# Altium integrated library AhalTech BMS.IntLib: 45 symbols (part 1 of 4)
Pins are listed as number, name and electrical type; pins without a type are passive.

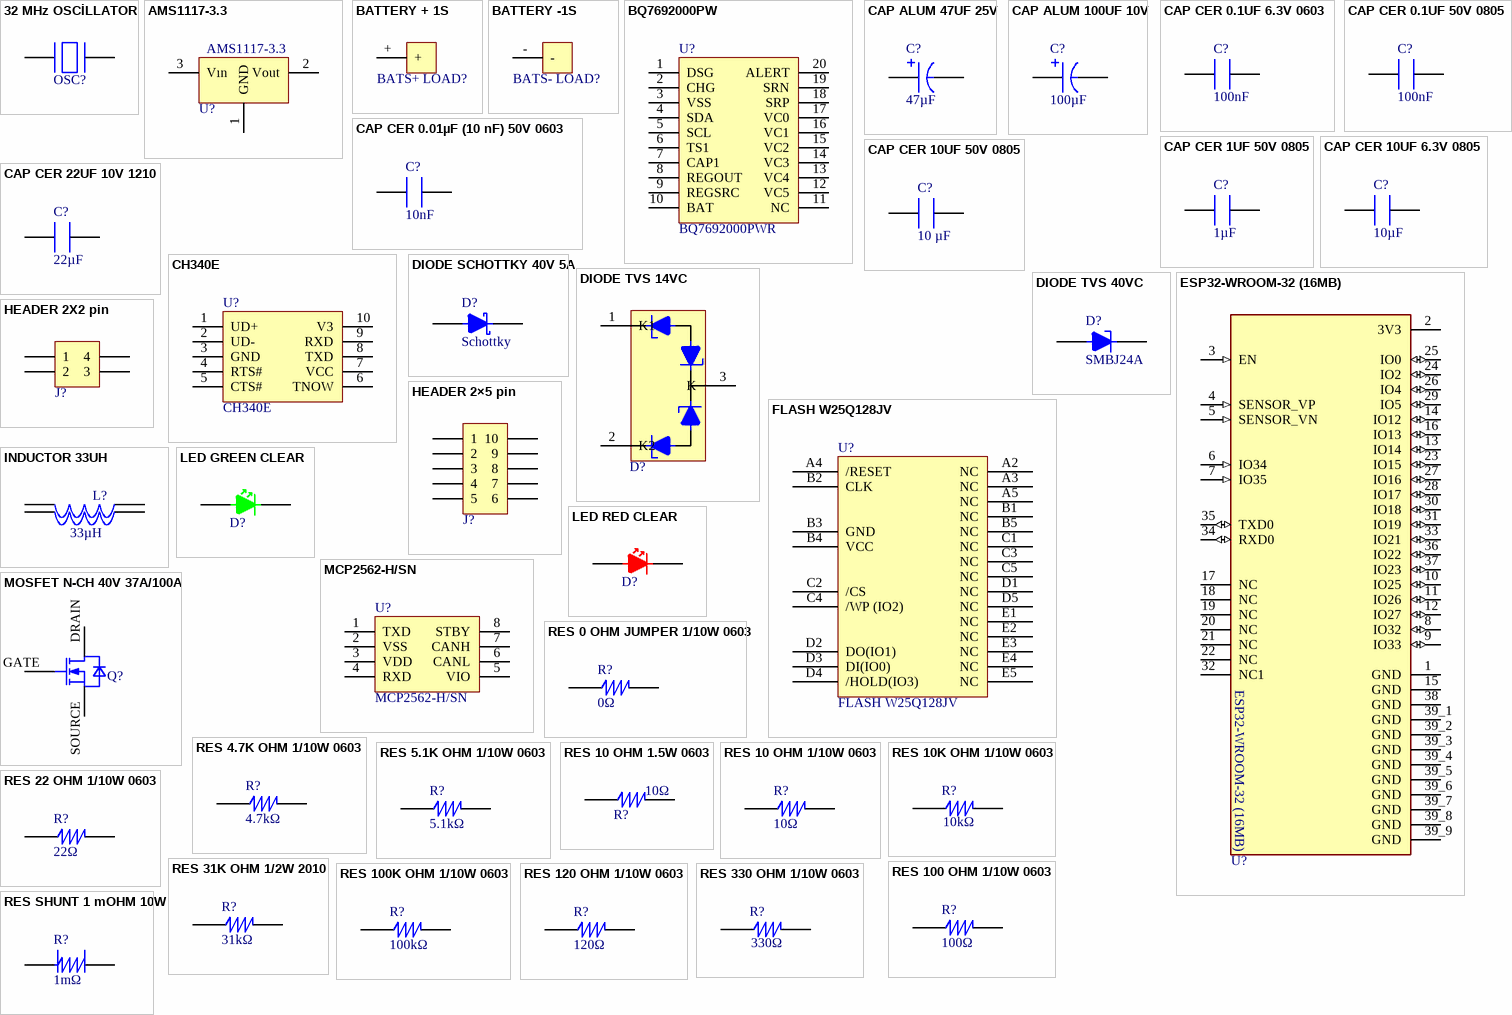
[diagram p0: symbols 32 MHz OSCİLLATOR to RES SHUNT 1 mOHM 10W]

## 32 MHz OSCİLLATOR
designator OSC?, comment END4263D-32M  (value not drawn)
32 MHz TCXO Clipped Sine Wave Oscillator 1.65V ~ 3.65V 4-SMD, No Lead; Base Resonator: Crystal; Frequency: 32 MHz; Frequency Stability: ±2.5ppm; Current - Supply (Max): 2mA; Type: TCXO; Output: Clipped Sine Wave; Voltage - Supply: 1.65V ~ 3.65V; Operating Temperature: -30°C ~ 85°C; Mounting Type: Surface Mount; Package / Case: 4-SMD, No Lead; Size / Dimension: 0.079" L x 0.063" W (2.00mm x 1.60mm)
footprint OSC_4-SMD, No Lead
pins: 1, 2

## AMS1117-3.3
designator U?
IC REG LINEAR 3.3V 1A SOT-223-3L; Manufacturer: ams; Max Junction Temperature (Tj): 125°C; Number of Circuits: 1; Voltage Tolerance: 3%; Supplier: Bison Technologies; RoHS: Compliant; Category: LDO Voltage Regulators; Stock: 375; Pricing: 100=0,1, 1000=0,1, 10000=0,1 (USD); Height - Seated (Max): 1.8mm; Length: 6.505mm; Number of Terminals: 3; REACH SVHC: Yes; Terminal Pitch: 2.29mm; Width: 3.505mm; ComponentLink1URL: https://datasheet.octopart.com:443/AMS1117-3.3-ams-datasheet-31830847.pdf?src-supplier=IHS; ComponentLink1Description: https://datasheet.octopart.com:443/AMS1117-3.3-ams-datasheet-31830847.pdf?src-supplier=IHS; Manufacturer Part Number: AMS1117-3.3
footprint SOT-223-3L
pins: 1 GND, 2 Vout, 3 Vın

## BATTERY + 1S
designator BATS+ LOAD?  (value not drawn)
battery + pad
footprint BATTERY +1S
pins: +

## BATTERY -1S
designator BATS- LOAD?  (value not drawn)
battery - pad
footprint BATTERY -1S
pins: -

## BQ7692000PW
designator U?  Supplier Part Number: BQ7692000PWR  (hidden comment: BQ7692000PW)
3 to 5-Series Cell Li-Ion and Li-Phosphate Battery Monitor (bq76940 Family) 20-TSSOP -40 to 85; Manufacturer: Texas Instruments; Manufacturer Lifecycle Status: ACTIVE; Fault Protection: Over Current, Over/Under Voltage, Short Circuit; Interface: I2C; Max Supply Voltage: 25V; Min Supply Voltage: 6V; Number of Cells: 5; Output Voltage: 3.6V; Supplier: Mouser; Manufacturer Part Number: BQ7692000PWR; RoHS: Compliant; Category: Battery Management; Stock: 2559; Pricing: 1=3,56, 10=2,68, 50=2,46, 100=2,21, 1000=1,97, 10000=1,87 (USD); Case/Package: TSSOP; Contact Plating: Gold; Height: 0m; Lead Free: Lead Free; Length: 6.5mm; Lifecycle Status: Production; Max Operating Temperature: 85°C; Min Operating Temperature: -40°C; Mounting Technology: Surface Mount; Pins: 20; Packaging: Tape & Reel (TR); Thickness: 1mm; Weight: 78.187985mg; Width: 4.4mm; ComponentLink1URL: https://sigma.octopart.com:443/157851284/technical_drawing/Texas-Instruments-BQ7692000PWR.pdf?src-supplier=Texas+Instruments; ComponentLink1Description: https://sigma.octopart.com:443/157851284/technical_drawing/Texas-Instruments-BQ7692000PWR.pdf?src-supplier=Texas+Instruments; ComponentLink2URL: https://octopart.com:443/opatz8j6/c1?t=SUv5cTV3hbxgLzMURFhOl31P7KwdP4IIa1VXY-0LQTF56ovuquQhRah-IZMqMMYwmg_DfMuMoPnfRi3b6zabcyTbO33mx1nQz2bkJkMKHm8q09abDQSYb_WkrLjav2RMt-V5NjDpR6hn6fR69isqLRegOjoVb3BuvhuEuIC9qftM-JVDlkyISEQycX9rjI5xR09KPbL3ewCdJCialcWofIxbjuTWOTvIVVdEzCEQW0iyRmTiOXLILS7qWjAwphNZ1e-U7mh07FngErzhP7Mb2cWrE7io9jCloFUrM_r23Ys53kEe01IhFn4WIjfFAp6eArI68kZDZimviBPFZOzgamDubAsPha5UrIwXwr63rUMxCzXOMdaU3E7royDoSUAaeIRbPQ&src-supplier=Texas+Instruments; ComponentLink2Description: https://octopart.com:443/opatz8j6/c1?t=SUv5cTV3hbxgLzMURFhOl31P7KwdP4IIa1VXY-0LQTF56ovuquQhRah-IZMqMMYwmg_DfMuMoPnfRi3b6zabcyTbO33mx1nQz2bkJkMKHm8q09abDQSYb_WkrLjav2RMt-V5NjDpR6hn6fR69isqLRegOjoVb3BuvhuEuIC9qftM-JVDlkyISEQycX9rjI5xR09KPbL3ewCdJCialcWofIxbjuTWOTvIVVdEzCEQW0iyRmTiOXLILS7qWjAwphNZ1e-U7mh07FngErzhP7Mb2cWrE7io9jCloFUrM_r23Ys53kEe01IhFn4WIjfFAp6eArI68kZDZimviBPFZOzgamDubAsPha5UrIwXwr63rUMxCzXOMdaU3E7royDoSUAaeIRbPQ&src-supplier=Texas+Instruments; ComponentLink3URL: https://datasheet.octopart.com:443/BQ7692000PWR-Texas-Instruments-datasheet-34142074.pdf?src-supplier=Texas+Instruments; ComponentLink3Description: https://datasheet.octopart.com:443/BQ7692000PWR-Texas-Instruments-datasheet-34142074.pdf?src-supplier=Texas+Instruments; ComponentLink4URL: https://datasheet.octopart.com:443/BQ7692000PWR-Texas-Instruments-datasheet-32015107.pdf?src-supplier=Texas+Instruments; ComponentLink4Description: https://datasheet.octopart.com:443/BQ7692000PWR-Texas-Instruments-datasheet-32015107.pdf?src-supplier=Texas+Instruments; ComponentLink5URL: https://datasheet.octopart.com:443/BQ7692000PWR-Texas-Instruments-datasheet-24998011.pdf?src-supplier=Texas+Instruments; ComponentLink5Description: https://datasheet.octopart.com:443/BQ7692000PWR-Texas-Instruments-datasheet-24998011.pdf?src-supplier=Texas+Instruments; ComponentLink6URL: https://sigma.octopart.com:443/49249835/technical_drawing/Texas-Instruments-BQ7692000PWR.pdf?src-supplier=Texas+Instruments; ComponentLink6Description: https://sigma.octopart.com:443/49249835/technical_drawing/Texas-Instruments-BQ7692000PWR.pdf?src-supplier=Texas+Instruments; ComponentLink7URL: https://datasheet.octopart.com:443/BQ7692000PWR-Texas-Instruments-datasheet-149901685.pdf?src-supplier=Upverter; ComponentLink7Description: https://datasheet.octopart.com:443/BQ7692000PWR-Texas-Instruments-datasheet-149901685.pdf?src-supplier=Upverter; ComponentLink8URL: https://datasheet.octopart.com:443/BQ7692000PWR-Texas-Instruments-datasheet-162168029.pdf?src-supplier=LCSC; ComponentLink8Description: https://datasheet.octopart.com:443/BQ7692000PWR-Texas-Instruments-datasheet-162168029.pdf?src-supplier=LCSC; ComponentLink9URL: https://datasheet.octopart.com:443/BQ7692000PWR-Texas-Instruments-datasheet-164413110.pdf?src-supplier=SHENGYU+ELECTRONICS; ComponentLink9Description: https://datasheet.octopart.com:443/BQ7692000PWR-Texas-Instruments-datasheet-164413110.pdf?src-supplier=SHENGYU+ELECTRONICS; ComponentLink10URL: http://sigma.octopart.com:80/conflict_mineral_statement/Texas-Instruments-company-63.pdf?src-supplier=Compliance+Statements; ComponentLink10Description: http://sigma.octopart.com:80/conflict_mineral_statement/Texas-Instruments-company-63.pdf?src-supplier=Compliance+Statements; ComponentLink11URL: http://sigma.octopart.com:80/reach_statement/Texas-Instruments-company-64.pdf?src-supplier=Compliance+Statements; ComponentLink11Description: http://sigma.octopart.com:80/reach_statement/Texas-Instruments-company-64.pdf?src-supplier=Compliance+Statements
footprint 20-TSSOP
pins: 1 DSG, 2 CHG, 3 VSS, 4 SDA, 5 SCL, 6 TS1, 7 CAP1, 8 REGOUT, 9 REGSRC, 10 BAT, 11 NC, 12 VC5, 13 VC4, 14 VC3, 15 VC2, 16 VC1, 17 VC0, 18 SRP, 19 SRN, 20 ALERT

## CAP ALUM 47UF 25V
designator C?, comment value 47µF  (hidden comment: EEE-FK1E470P)
Radial Can - SMD ALUMINUM ELECTROLYTIC CAPACITOR FK 25V 47muF ±20% 0.248Dia 6.30mm; Manufacturer: Panasonic; Manufacturer Part Number: EEEFK1E470P; Dielectric Material: Aluminium; Dissipation Factor: 14%; ESR (Equivalent Series Resistance): 360mΩ; Leakage Current: 11.75µA; Life (Hours): 2000hours; Polarity: Polar; Ripple Current: 180mA; Ripple Current (AC): 240mA; Supplier: Arrow Electronics; Supplier Part Number: EEE-FK1E470P; RoHS: Compliant; Category: Aluminum Electrolytic Capacitors; Stock: 18000; Pricing: 1000=0,0922, 2000=0,091, 3000=0,09, 4000=0,086, 5000=0,085, 10000=0,08 (USD); Case/Package: Radial; Contact Plating: Tin; Diameter: 6.3mm; Height: 5.8mm; Height - Seated (Max): 6.096mm; Impedance: 360mΩ; Lead Free: Lead Free; Length: 6.6mm; Lifecycle Status: Production; Max Operating Temperature: 105°C; Min Operating Temperature: -55°C; Mounting Technology: Surface Mount; Pins: 2; Number of Terminals: 2; Packaging: Cut Tape; Radiation Hardening: No; REACH SVHC: Yes; Schedule B: 8532220020, 8532220020|8532220020|8532220020|8532220020|8532220020|8532220020|8532220020|8532220020|8532220020|8532220020|8532220020|8532220020|8532220020|8532220020|8532220020|8532220020|8532220020|8532220020|8532220020|8532220020|8532220020|8532220020|8532220020|85; Termination: SMD/SMT; Tolerance: 20%; Voltage: 25V; Voltage Rating: 25V; Voltage Rating (AC): 25V; Voltage Rating (DC): 25V; Width: 6.6mm; ComponentLink1URL: https://datasheet.octopart.com:443/EEEFK1E470P-Panasonic-datasheet-169278531.pdf?src-supplier=IHS; ComponentLink1Description: https://datasheet.octopart.com:443/EEEFK1E470P-Panasonic-datasheet-169278531.pdf?src-supplier=IHS; ComponentLink2URL: https://datasheet.octopart.com:443/EEEFK1E470P-Panasonic-datasheet-62287436.pdf?src-supplier=Newark; ComponentLink2Description: https://datasheet.octopart.com:443/EEEFK1E470P-Panasonic-datasheet-62287436.pdf?src-supplier=Newark; ComponentLink3URL: https://datasheet.octopart.com:443/EEEFK1E470P-Panasonic-datasheet-8161.pdf?src-supplier=Newark; ComponentLink3Description: https://datasheet.octopart.com:443/EEEFK1E470P-Panasonic-datasheet-8161.pdf?src-supplier=Newark; ComponentLink4URL: https://datasheet.octopart.com:443/EEEFK1E470P-Panasonic-datasheet-61627622.pdf?src-supplier=Newark; ComponentLink4Description: https://datasheet.octopart.com:443/EEEFK1E470P-Panasonic-datasheet-61627622.pdf?src-supplier=Newark; ComponentLink5URL: https://datasheet.octopart.com:443/EEEFK1E470P-Panasonic-datasheet-8852369.pdf?src-supplier=Newark; ComponentLink5Description: https://datasheet.octopart.com:443/EEEFK1E470P-Panasonic-datasheet-8852369.pdf?src-supplier=Newark; ComponentLink6URL: https://datasheet.octopart.com:443/EEEFK1E470P-Panasonic-datasheet-8712906.pdf?src-supplier=Newark; ComponentLink6Description: https://datasheet.octopart.com:443/EEEFK1E470P-Panasonic-datasheet-8712906.pdf?src-supplier=Newark; ComponentLink7URL: https://datasheet.octopart.com:443/EEEFK1E470P-Panasonic-datasheet-13278598.pdf?src-supplier=Newark; ComponentLink7Description: https://datasheet.octopart.com:443/EEEFK1E470P-Panasonic-datasheet-13278598.pdf?src-supplier=Newark; ComponentLink8URL: https://datasheet.octopart.com:443/EEE-FK1E470P-Panasonic-datasheet-22087609.pdf?src-supplier=Newark; ComponentLink8Description: https://datasheet.octopart.com:443/EEE-FK1E470P-Panasonic-datasheet-22087609.pdf?src-supplier=Newark; ComponentLink9URL: https://datasheet.octopart.com:443/EEEFK1E470P-Panasonic-datasheet-13266987.pdf?src-supplier=RS+(Formerly+Allied+Electronics); ComponentLink9Description: https://datasheet.octopart.com:443/EEEFK1E470P-Panasonic-datasheet-13266987.pdf?src-supplier=RS+(Formerly+Allied+Electronics); ComponentLink10URL: https://datasheet.octopart.com:443/EEEFK1E470P-Panasonic-datasheet-8854493.pdf?src-supplier=Future+Electronics; ComponentLink10Description: https://datasheet.octopart.com:443/EEEFK1E470P-Panasonic-datasheet-8854493.pdf?src-supplier=Future+Electronics; ComponentLink11URL: https://datasheet.octopart.com:443/EEEFK1E470P-Panasonic-datasheet-8711795.pdf?src-supplier=Future+Electronics; ComponentLink11Description: https://datasheet.octopart.com:443/EEEFK1E470P-Panasonic-datasheet-8711795.pdf?src-supplier=Future+Electronics; ComponentLink12URL: https://datasheet.octopart.com:443/EEEFK1E470P-Panasonic-datasheet-5313801.pdf?src-supplier=Future+Electronics; ComponentLink12Description: https://datasheet.octopart.com:443/EEEFK1E470P-Panasonic-datasheet-5313801.pdf?src-supplier=Future+Electronics; ComponentLink13URL: https://datasheet.octopart.com:443/EEE-FK1E470P-Panasonic-datasheet-150469824.pdf?src-supplier=JRH+Electronics; ComponentLink13Description: https://datasheet.octopart.com:443/EEE-FK1E470P-Panasonic-datasheet-150469824.pdf?src-supplier=JRH+Electronics; ComponentLink14URL: https://datasheet.octopart.com:443/EEE-FK1E470P-Panasonic-datasheet-11546739.pdf?src-supplier=Electro+Sonic; ComponentLink14Description: https://datasheet.octopart.com:443/EEE-FK1E470P-Panasonic-datasheet-11546739.pdf?src-supplier=Electro+Sonic; ComponentLink15URL: https://datasheet.octopart.com:443/EEEFK1E470P-Panasonic-datasheet-7555708.pdf?src-supplier=Jameco; ComponentLink15Description: https://datasheet.octopart.com:443/EEEFK1E470P-Panasonic-datasheet-7555708.pdf?src-supplier=Jameco; ComponentLink16URL: https://sigma.octopart.com:443/150570760/technical_drawing/Panasonic-EEEFK1E470P.pdf?src-supplier=Panasonic+SCT; ComponentLink16Description: https://sigma.octopart.com:443/150570760/technical_drawing/Panasonic-EEEFK1E470P.pdf?src-supplier=Panasonic+SCT; ComponentLink17URL: https://datasheet.octopart.com:443/EEEFK1E470P-Panasonic-datasheet-136531309.pdf?src-supplier=TME; ComponentLink17Description: https://datasheet.octopart.com:443/EEEFK1E470P-Panasonic-datasheet-136531309.pdf?src-supplier=TME; ComponentLink18URL: https://datasheet.octopart.com:443/EEEFK1E470P-Panasonic-datasheet-136348055.pdf?src-supplier=TME; ComponentLink18Description: https://datasheet.octopart.com:443/EEEFK1E470P-Panasonic-datasheet-136348055.pdf?src-supplier=TME; ComponentLink19URL: https://datasheet.octopart.com:443/EEEFK1E470P-Panasonic-datasheet-5318435.pdf?src-supplier=Farnell; ComponentLink19Description: https://datasheet.octopart.com:443/EEEFK1E470P-Panasonic-datasheet-5318435.pdf?src-supplier=Farnell; ComponentLink20URL: https://datasheet.octopart.com:443/EEEFK1E470P-Panasonic-datasheet-5316599.pdf?src-supplier=Farnell; ComponentLink20Description: https://datasheet.octopart.com:443/EEEFK1E470P-Panasonic-datasheet-5316599.pdf?src-supplier=Farnell; ComponentLink21URL: https://datasheet.octopart.com:443/EEEFK1E470P-Panasonic-datasheet-5390910.pdf?src-supplier=Farnell; ComponentLink21Description: https://datasheet.octopart.com:443/EEEFK1E470P-Panasonic-datasheet-5390910.pdf?src-supplier=Farnell; ComponentLink22URL: https://datasheet.octopart.com:443/EEEFK1E470P-Panasonic-datasheet-7550061.pdf?src-supplier=Farnell; ComponentLink22Description: https://datasheet.octopart.com:443/EEEFK1E470P-Panasonic-datasheet-7550061.pdf?src-supplier=Farnell; ComponentLink23URL: https://datasheet.octopart.com:443/EEEFK1E470P-Panasonic-datasheet-1770.pdf?src-supplier=Farnell; ComponentLink23Description: https://datasheet.octopart.com:443/EEEFK1E470P-Panasonic-datasheet-1770.pdf?src-supplier=Farnell; ComponentLink24URL: https://datasheet.octopart.com:443/EEEFK1E470P-Panasonic-datasheet-1290.pdf?src-supplier=Farnell; ComponentLink24Description: https://datasheet.octopart.com:443/EEEFK1E470P-Panasonic-datasheet-1290.pdf?src-supplier=Farnell; ComponentLink25URL: https://datasheet.octopart.com:443/EEEFK1E470P-Panasonic-datasheet-2601.pdf?src-supplier=Farnell; ComponentLink25Description: https://datasheet.octopart.com:443/EEEFK1E470P-Panasonic-datasheet-2601.pdf?src-supplier=Farnell; ComponentLink26URL: https://datasheet.octopart.com:443/EEEFK1E470P-Panasonic-datasheet-122249.pdf?src-supplier=Farnell; ComponentLink26Description: https://datasheet.octopart.com:443/EEEFK1E470P-Panasonic-datasheet-122249.pdf?src-supplier=Farnell; ComponentLink27URL: https://datasheet.octopart.com:443/EEEFK1E470P-Panasonic-datasheet-4056.pdf?src-supplier=Farnell; ComponentLink27Description: https://datasheet.octopart.com:443/EEEFK1E470P-Panasonic-datasheet-4056.pdf?src-supplier=Farnell
footprint CAP_EEE-FK1E470P
pins: 1, 2

## CAP ALUM 100UF 10V
designator C?, comment value 100µF  (hidden comment: EEE-1AA101WR)
CAP ALUM 100UF 20% 10V SMD; Manufacturer: Panasonic; Dissipation Factor: 30%; Leakage Current: 10µA; Life (Hours): 1000hours; Ripple Current: 50mA; Supplier: Arrow Electronics; Supplier Part Number: EEE-1AA101WR; Manufacturer Part Number: EEE-1AA101WR; RoHS: Compliant; Category: Aluminum Electrolytic Capacitors; Stock: 26000; Pricing: 1000=0,0647 (USD); Case/Package: Radial; Contact Plating: Tin; Diameter: 5mm; Height: 5.4mm; Height - Seated (Max): 5.4102mm; Lead Free: Lead Free; Length: 5.3mm; Lifecycle Status: NRND; Max Operating Temperature: 85°C; Min Operating Temperature: -40°C; Mounting Technology: Surface Mount; Number of Terminals: 2; Packaging: Cut Tape; Radiation Hardening: No; REACH SVHC: Yes; Ripple Current (AC): 50mA; Schedule B: 8532220020, 8532220020|8532220020|8532220020|8532220020|8532220020; Termination: SMD/SMT; Tolerance: 20%; Voltage Rating: 10V; Voltage Rating (DC): 10V; Width: 5.3mm; ComponentLink1URL: https://datasheet.octopart.com:443/EEE-1AA101WR-Panasonic-datasheet-62330071.pdf?src-supplier=Newark; ComponentLink1Description: https://datasheet.octopart.com:443/EEE-1AA101WR-Panasonic-datasheet-62330071.pdf?src-supplier=Newark; ComponentLink2URL: https://datasheet.octopart.com:443/EEE-1AA101WR-Panasonic-datasheet-5314063.pdf?src-supplier=Newark; ComponentLink2Description: https://datasheet.octopart.com:443/EEE-1AA101WR-Panasonic-datasheet-5314063.pdf?src-supplier=Newark; ComponentLink3URL: https://datasheet.octopart.com:443/EEE-1AA101WR-Panasonic-datasheet-41169183.pdf?src-supplier=Newark; ComponentLink3Description: https://datasheet.octopart.com:443/EEE-1AA101WR-Panasonic-datasheet-41169183.pdf?src-supplier=Newark; ComponentLink4URL: https://datasheet.octopart.com:443/EEE-1AA101WR-Panasonic-datasheet-13265900.pdf?src-supplier=RS+(Formerly+Allied+Electronics); ComponentLink4Description: https://datasheet.octopart.com:443/EEE-1AA101WR-Panasonic-datasheet-13265900.pdf?src-supplier=RS+(Formerly+Allied+Electronics); ComponentLink5URL: https://datasheet.octopart.com:443/EEE-1AA101WR-Panasonic-datasheet-34230028.pdf?src-supplier=element14+APAC; ComponentLink5Description: https://datasheet.octopart.com:443/EEE-1AA101WR-Panasonic-datasheet-34230028.pdf?src-supplier=element14+APAC; ComponentLink6URL: https://datasheet.octopart.com:443/EEE-1AA101WR-Panasonic-datasheet-154766114.pdf?src-supplier=Master+Electronics; ComponentLink6Description: https://datasheet.octopart.com:443/EEE-1AA101WR-Panasonic-datasheet-154766114.pdf?src-supplier=Master+Electronics; ComponentLink7URL: https://datasheet.octopart.com:443/EEE-1AA101WR-Panasonic-datasheet-11548988.pdf?src-supplier=Arrow+Electronics; ComponentLink7Description: https://datasheet.octopart.com:443/EEE-1AA101WR-Panasonic-datasheet-11548988.pdf?src-supplier=Arrow+Electronics; ComponentLink8URL: https://datasheet.octopart.com:443/EEE1AA101WR-Panasonic-datasheet-150469818.pdf?src-supplier=TME; ComponentLink8Description: https://datasheet.octopart.com:443/EEE1AA101WR-Panasonic-datasheet-150469818.pdf?src-supplier=TME; ComponentLink9URL: https://sigma.octopart.com:443/150570760/technical_drawing/Panasonic-EEE1AA101WR.pdf?src-supplier=Panasonic+SCT; ComponentLink9Description: https://sigma.octopart.com:443/150570760/technical_drawing/Panasonic-EEE1AA101WR.pdf?src-supplier=Panasonic+SCT; ComponentLink10URL: https://datasheet.octopart.com:443/EEE-1AA101WR-Panasonic-datasheet-6019.pdf?src-supplier=DigiKey; ComponentLink10Description: https://datasheet.octopart.com:443/EEE-1AA101WR-Panasonic-datasheet-6019.pdf?src-supplier=DigiKey
footprint CAP_EEE-1AA101WR
pins: 1, 2

## CAP CER 0.1UF 6.3V 0603
designator C?, comment value 100nF  (hidden comment: KGM15AR70J104JT)
0.1 µF ±5% 6.3V Ceramic Capacitor X7R 0603 (1608 Metric); Manufacturer: KYOCERA AVX; Supplier: Arrow Electronics; Supplier Part Number: KGM15AR70J104JT; Manufacturer Part Number: KGM15AR70J104JT; RoHS: Compliant; Category: Ceramic Capacitors; Stock: 2087; Pricing: 1=0,019, 10=0,019, 25=0,019, 100=0,018, 250=0,018, 500=0,018, 1000=0,018 (USD); Dielectric Material: Ceramic; Height: 900µm; Length: 1.6mm; Lifecycle Status: Production; Max Operating Temperature: 125°C; Min Operating Temperature: -55°C; Mounting Technology: Surface Mount; Number of Terminals: 2; REACH SVHC: Yes; Voltage Rating (DC): 6.3V; Width: 810µm; ComponentLink1URL: https://datasheet.octopart.com:443/KGM15AR70J104JT-KYOCERA-AVX-datasheet-179280988.pdf?src-supplier=IHS; ComponentLink1Description: https://datasheet.octopart.com:443/KGM15AR70J104JT-KYOCERA-AVX-datasheet-179280988.pdf?src-supplier=IHS
footprint CAP CER 0603
pins: 1, 2

## CAP CER 0.1UF 50V 0805
designator C?, comment value 100nF  (hidden comment: KGM21NR71H104KT)
0.1 µF ±10% 50V Ceramic Capacitor X7R 0805 (2012 Metric); Manufacturer: KYOCERA AVX; Supplier: Arrow Electronics; Supplier Part Number: KGM21NR71H104KT; Manufacturer Part Number: KGM21NR71H104KT; RoHS: Compliant; Category: Ceramic Capacitors; Stock: 28652000; Pricing: 4000=0,0068, 20000=0,007, 100000=0,006 (USD); Dielectric Material: Ceramic; Height: 1mm; Length: 2.01mm; Lifecycle Status: Production; Max Operating Temperature: 125°C; Min Operating Temperature: -55°C; Mounting Technology: Surface Mount; Number of Terminals: 2; REACH SVHC: Yes; Voltage Rating (DC): 50V; Width: 1.25mm; ComponentLink1URL: https://datasheet.octopart.com:443/KGM21NR71H104KT-KYOCERA-AVX-datasheet-179280988.pdf?src-supplier=IHS; ComponentLink1Description: https://datasheet.octopart.com:443/KGM21NR71H104KT-KYOCERA-AVX-datasheet-179280988.pdf?src-supplier=IHS; ComponentLink2URL: https://datasheet.octopart.com:443/KGM21NR71H104KT-KYOCERA-AVX-datasheet-178027269.pdf?src-supplier=TME; ComponentLink2Description: https://datasheet.octopart.com:443/KGM21NR71H104KT-KYOCERA-AVX-datasheet-178027269.pdf?src-supplier=TME; ComponentLink3URL: https://datasheet.octopart.com:443/KGM21NR71H104KT-KYOCERA-AVX-datasheet-175509538.pdf?src-supplier=Future+Electronics; ComponentLink3Description: https://datasheet.octopart.com:443/KGM21NR71H104KT-KYOCERA-AVX-datasheet-175509538.pdf?src-supplier=Future+Electronics; ComponentLink4URL: http://sigma.octopart.com:80/conflict_mineral_statement/AVX-company-34.pdf?src-supplier=Compliance+Statements; ComponentLink4Description: http://sigma.octopart.com:80/conflict_mineral_statement/AVX-company-34.pdf?src-supplier=Compliance+Statements; ComponentLink5URL: http://sigma.octopart.com:80/reach_statement/AVX-company-19.pdf?src-supplier=Compliance+Statements; ComponentLink5Description: http://sigma.octopart.com:80/reach_statement/AVX-company-19.pdf?src-supplier=Compliance+Statements
footprint CAP CER 0805
pins: 1, 2

## CAP CER 0.01µF (10 nF) 50V 0603
designator C?, comment value 10nF  (hidden comment: C0603C103J5RACTU)
CAP CER 10000PF 50V X7R 0603; Manufacturer: KEMET; Dielectric Material: Ceramic; Dissipation Factor: 2.5%; Temperature Coefficient: 30ppm/°C; Tolerance: 5%; Supplier: Arrow Electronics; Supplier Part Number: C0603C103J5RACTU; Manufacturer Part Number: C0603C103J5RACTU; RoHS: Compliant; Category: Ceramic Capacitors; Stock: 896000; Pricing: 20000=0,0043 (USD); Case/Package: 0603; Case Code (Imperial): 0603; China RoHS: Compliant; Contact Plating: Tin; Depth: 800µm; Dielectric: X7R; Height: 800µm; Lead Free: Lead Free; Lead Pitch: 700µm; Length: 1.6mm; Lifecycle Status: Production; Material: Ceramic; Max Operating Temperature: 125°C; Min Operating Temperature: -55°C; Mounting Technology: Surface Mount; Pins: 2; Number of Terminals: 2; Packaging: Cut Tape; Radiation Hardening: No; REACH SVHC: Yes; Schedule B: 8532240020, 8532240020|8532240020, 8532240020|8532240020|8532240020, 8532240020|8532240020|8532240020|8532240020; Termination: SMD/SMT; Thickness: 863.6µm; Voltage: 50V; Voltage Rating: 50V; Voltage Rating (DC): 50V; Width: 800µm; ComponentLink1URL: https://datasheet.octopart.com:443/C0603C103J5RAC7867-KEMET-datasheet-179096189.pdf?src-supplier=IHS; ComponentLink1Description: https://datasheet.octopart.com:443/C0603C103J5RAC7867-KEMET-datasheet-179096189.pdf?src-supplier=IHS; ComponentLink2URL: https://datasheet.octopart.com:443/C0603C103J5RACTU-KEMET-datasheet-178445679.pdf?src-supplier=IHS; ComponentLink2Description: https://datasheet.octopart.com:443/C0603C103J5RACTU-KEMET-datasheet-178445679.pdf?src-supplier=IHS; ComponentLink3URL: https://datasheet.octopart.com:443/C0603C103J5RACTU-KEMET-datasheet-137357759.pdf?src-supplier=Upverter; ComponentLink3Description: https://datasheet.octopart.com:443/C0603C103J5RACTU-KEMET-datasheet-137357759.pdf?src-supplier=Upverter; ComponentLink4URL: https://datasheet.octopart.com:443/C0603C103J5RACTU-KEMET-datasheet-137357764.pdf?src-supplier=Upverter; ComponentLink4Description: https://datasheet.octopart.com:443/C0603C103J5RACTU-KEMET-datasheet-137357764.pdf?src-supplier=Upverter; ComponentLink5URL: https://datasheet.octopart.com:443/C0603C103J5RAC-TU-Kemet-datasheet-5313890.pdf?src-supplier=Newark; ComponentLink5Description: https://datasheet.octopart.com:443/C0603C103J5RAC-TU-Kemet-datasheet-5313890.pdf?src-supplier=Newark; ComponentLink6URL: https://datasheet.octopart.com:443/C0603C103J5RAC-TU-Kemet-datasheet-5390537.pdf?src-supplier=Newark; ComponentLink6Description: https://datasheet.octopart.com:443/C0603C103J5RAC-TU-Kemet-datasheet-5390537.pdf?src-supplier=Newark; ComponentLink7URL: https://datasheet.octopart.com:443/C0603C103J5RAC-TU-Kemet-datasheet-7541751.pdf?src-supplier=Newark; ComponentLink7Description: https://datasheet.octopart.com:443/C0603C103J5RAC-TU-Kemet-datasheet-7541751.pdf?src-supplier=Newark; ComponentLink8URL: https://datasheet.octopart.com:443/C0603C103J5RACTU-KEMET-datasheet-176289383.pdf?src-supplier=Newark; ComponentLink8Description: https://datasheet.octopart.com:443/C0603C103J5RACTU-KEMET-datasheet-176289383.pdf?src-supplier=Newark; ComponentLink9URL: https://datasheet.octopart.com:443/C0603C103J5RACTU-KEMET-datasheet-130256537.pdf?src-supplier=Newark; ComponentLink9Description: https://datasheet.octopart.com:443/C0603C103J5RACTU-KEMET-datasheet-130256537.pdf?src-supplier=Newark; ComponentLink10URL: https://datasheet.octopart.com:443/C0603C103J5RACTU-Kemet-datasheet-8764837.pdf?src-supplier=Newark; ComponentLink10Description: https://datasheet.octopart.com:443/C0603C103J5RACTU-Kemet-datasheet-8764837.pdf?src-supplier=Newark; ComponentLink11URL: https://datasheet.octopart.com:443/C0603C103J5RACTU-Kemet-datasheet-8480123.pdf?src-supplier=Newark; ComponentLink11Description: https://datasheet.octopart.com:443/C0603C103J5RACTU-Kemet-datasheet-8480123.pdf?src-supplier=Newark; ComponentLink12URL: https://datasheet.octopart.com:443/C0603C103J5RACTU-Kemet-datasheet-5393970.pdf?src-supplier=Newark; ComponentLink12Description: https://datasheet.octopart.com:443/C0603C103J5RACTU-Kemet-datasheet-5393970.pdf?src-supplier=Newark; ComponentLink13URL: https://datasheet.octopart.com:443/C0603C103J5RACTU-Kemet-datasheet-8502025.pdf?src-supplier=Newark; ComponentLink13Description: https://datasheet.octopart.com:443/C0603C103J5RACTU-Kemet-datasheet-8502025.pdf?src-supplier=Newark; ComponentLink14URL: https://datasheet.octopart.com:443/C0603C103J5RACTU-Kemet-datasheet-161801.pdf?src-supplier=Newark; ComponentLink14Description: https://datasheet.octopart.com:443/C0603C103J5RACTU-Kemet-datasheet-161801.pdf?src-supplier=Newark; ComponentLink15URL: https://datasheet.octopart.com:443/C0603C103J5RACTU-KEMET-datasheet-149521810.pdf?src-supplier=Farnell; ComponentLink15Description: https://datasheet.octopart.com:443/C0603C103J5RACTU-KEMET-datasheet-149521810.pdf?src-supplier=Farnell; ComponentLink16URL: https://datasheet.octopart.com:443/C0603C103J5RACTU-Kemet-datasheet-12608295.pdf?src-supplier=Farnell; ComponentLink16Description: https://datasheet.octopart.com:443/C0603C103J5RACTU-Kemet-datasheet-12608295.pdf?src-supplier=Farnell; ComponentLink17URL: https://datasheet.octopart.com:443/C0603C103J5RACTU-Kemet-datasheet-11992184.pdf?src-supplier=Farnell; ComponentLink17Description: https://datasheet.octopart.com:443/C0603C103J5RACTU-Kemet-datasheet-11992184.pdf?src-supplier=Farnell; ComponentLink18URL: https://datasheet.octopart.com:443/C0603C103J5RACTU-Kemet-datasheet-10942409.pdf?src-supplier=Farnell; ComponentLink18Description: https://datasheet.octopart.com:443/C0603C103J5RACTU-Kemet-datasheet-10942409.pdf?src-supplier=Farnell; ComponentLink19URL: https://datasheet.octopart.com:443/C0603C103J5RACTU-Kemet-datasheet-10404442.pdf?src-supplier=Farnell; ComponentLink19Description: https://datasheet.octopart.com:443/C0603C103J5RACTU-Kemet-datasheet-10404442.pdf?src-supplier=Farnell; ComponentLink20URL: https://datasheet.octopart.com:443/C0603C103J5RACTU-KEMET-datasheet-101575638.pdf?src-supplier=Farnell; ComponentLink20Description: https://datasheet.octopart.com:443/C0603C103J5RACTU-KEMET-datasheet-101575638.pdf?src-supplier=Farnell; ComponentLink21URL: https://datasheet.octopart.com:443/C0603C103J5RAC-TU-Kemet-datasheet-7833651.pdf?src-supplier=Farnell; ComponentLink21Description: https://datasheet.octopart.com:443/C0603C103J5RAC-TU-Kemet-datasheet-7833651.pdf?src-supplier=Farnell; ComponentLink22URL: https://datasheet.octopart.com:443/C0603C103J5RAC-TU-Kemet-datasheet-7601896.pdf?src-supplier=Farnell; ComponentLink22Description: https://datasheet.octopart.com:443/C0603C103J5RAC-TU-Kemet-datasheet-7601896.pdf?src-supplier=Farnell; ComponentLink23URL: https://datasheet.octopart.com:443/C0603C103J5RAC-TU-Kemet-datasheet-5316294.pdf?src-supplier=Farnell; ComponentLink23Description: https://datasheet.octopart.com:443/C0603C103J5RAC-TU-Kemet-datasheet-5316294.pdf?src-supplier=Farnell; ComponentLink24URL: https://datasheet.octopart.com:443/C0603C103J5RAC-TU-Kemet-datasheet-5314837.pdf?src-supplier=Farnell; ComponentLink24Description: https://datasheet.octopart.com:443/C0603C103J5RAC-TU-Kemet-datasheet-5314837.pdf?src-supplier=Farnell; ComponentLink25URL: https://datasheet.octopart.com:443/C0603C103J5RAC-TU-Kemet-datasheet-8092359.pdf?src-supplier=Farnell; ComponentLink25Description: https://datasheet.octopart.com:443/C0603C103J5RAC-TU-Kemet-datasheet-8092359.pdf?src-supplier=Farnell; ComponentLink26URL: https://datasheet.octopart.com:443/C0603C103J5RAC-TU-Kemet-datasheet-5314449.pdf?src-supplier=Farnell; ComponentLink26Description: https://datasheet.octopart.com:443/C0603C103J5RAC-TU-Kemet-datasheet-5314449.pdf?src-supplier=Farnell; ComponentLink27URL: https://datasheet.octopart.com:443/C0603C103J5RAC-TU-Kemet-datasheet-5314969.pdf?src-supplier=Farnell; ComponentLink27Description: https://datasheet.octopart.com:443/C0603C103J5RAC-TU-Kemet-datasheet-5314969.pdf?src-supplier=Farnell; ComponentLink28URL: https://datasheet.octopart.com:443/C0603C103J5RAC-TU-Kemet-datasheet-5314627.pdf?src-supplier=Farnell; ComponentLink28Description: https://datasheet.octopart.com:443/C0603C103J5RAC-TU-Kemet-datasheet-5314627.pdf?src-supplier=Farnell; ComponentLink29URL: https://datasheet.octopart.com:443/C0603C103J5RAC-TU-Kemet-datasheet-5389132.pdf?src-supplier=Farnell; ComponentLink29Description: https://datasheet.octopart.com:443/C0603C103J5RAC-TU-Kemet-datasheet-5389132.pdf?src-supplier=Farnell; ComponentLink30URL: https://datasheet.octopart.com:443/C0603C103J5RAC-TU-Kemet-datasheet-5313836.pdf?src-supplier=Farnell; ComponentLink30Description: https://datasheet.octopart.com:443/C0603C103J5RAC-TU-Kemet-datasheet-5313836.pdf?src-supplier=Farnell; ComponentLink31URL: https://datasheet.octopart.com:443/C0603C103J5RAC-TU-Kemet-datasheet-8111010.pdf?src-supplier=Farnell; ComponentLink31Description: https://datasheet.octopart.com:443/C0603C103J5RAC-TU-Kemet-datasheet-8111010.pdf?src-supplier=Farnell; ComponentLink32URL: https://datasheet.octopart.com:443/C0603C103J5RAC-TU-Kemet-datasheet-7627733.pdf?src-supplier=Farnell; ComponentLink32Description: https://datasheet.octopart.com:443/C0603C103J5RAC-TU-Kemet-datasheet-7627733.pdf?src-supplier=Farnell; ComponentLink33URL: https://datasheet.octopart.com:443/C0603C103J5RAC-TU-Kemet-datasheet-5315946.pdf?src-supplier=Farnell; ComponentLink33Description: https://datasheet.octopart.com:443/C0603C103J5RAC-TU-Kemet-datasheet-5315946.pdf?src-supplier=Farnell; ComponentLink34URL: https://datasheet.octopart.com:443/C0603C103J5RACTU-Kemet-datasheet-32036385.pdf?src-supplier=Electro+Sonic; ComponentLink34Description: https://datasheet.octopart.com:443/C0603C103J5RACTU-Kemet-datasheet-32036385.pdf?src-supplier=Electro+Sonic; ComponentLink35URL: https://datasheet.octopart.com:443/C0603C103J5RACTU-KEMET-datasheet-157246124.pdf?src-supplier=Electro+Sonic; ComponentLink35Description: https://datasheet.octopart.com:443/C0603C103J5RACTU-KEMET-datasheet-157246124.pdf?src-supplier=Electro+Sonic; ComponentLink36URL: https://datasheet.octopart.com:443/C0603C103J5RACTU-KEMET-datasheet-164512540.pdf?src-supplier=TME; ComponentLink36Description: https://datasheet.octopart.com:443/C0603C103J5RACTU-KEMET-datasheet-164512540.pdf?src-supplier=TME; ComponentLink37URL: https://datasheet.octopart.com:443/C0603C103J5RACTU-KEMET-datasheet-96931484.pdf?src-supplier=TME; ComponentLink37Description: https://datasheet.octopart.com:443/C0603C103J5RACTU-KEMET-datasheet-96931484.pdf?src-supplier=TME; ComponentLink38URL: https://datasheet.octopart.com:443/C0603C103J5RACTU-KEMET-datasheet-68331906.pdf?src-supplier=TME; ComponentLink38Description: https://datasheet.octopart.com:443/C0603C103J5RACTU-KEMET-datasheet-68331906.pdf?src-supplier=TME; ComponentLink39URL: https://datasheet.octopart.com:443/C0603C103J5RACTU-KEMET-datasheet-160663178.pdf?src-supplier=JRH+Electronics; ComponentLink39Description: https://datasheet.octopart.com:443/C0603C103J5RACTU-KEMET-datasheet-160663178.pdf?src-supplier=JRH+Electronics; ComponentLink40URL: https://datasheet.octopart.com:443/C0603C103J5RACTU-KEMET-datasheet-110724412.pdf?src-supplier=RS+(Formerly+Allied+Electronics); ComponentLink40Description: https://datasheet.octopart.com:443/C0603C103J5RACTU-KEMET-datasheet-110724412.pdf?src-supplier=RS+(Formerly+Allied+Electronics); ComponentLink41URL: https://datasheet.octopart.com:443/C0603C103J5RACTU-Kemet-datasheet-464.pdf?src-supplier=RS+(Formerly+Allied+Electronics); ComponentLink41Description: https://datasheet.octopart.com:443/C0603C103J5RACTU-Kemet-datasheet-464.pdf?src-supplier=RS+(Formerly+Allied+Electronics); ComponentLink42URL: https://datasheet.octopart.com/C0603C103J5RACTU-KEMET-datasheet-84169754.pdf; ComponentLink42Description: https://datasheet.octopart.com/C0603C103J5RACTU-KEMET-datasheet-84169754.pdf; ComponentLink43URL: https://datasheet.octopart.com:443/C0603C103J5RACTU-Kemet-datasheet-24570007.pdf?src-supplier=element14+APAC; ComponentLink43Description: https://datasheet.octopart.com:443/C0603C103J5RACTU-Kemet-datasheet-24570007.pdf?src-supplier=element14+APAC; ComponentLink44URL: https://datasheet.octopart.com:443/C0603C103J5RACTU-Kemet-datasheet-22084244.pdf?src-supplier=element14+APAC; ComponentLink44Description: https://datasheet.octopart.com:443/C0603C103J5RACTU-Kemet-datasheet-22084244.pdf?src-supplier=element14+APAC; ComponentLink45URL: https://datasheet.octopart.com:443/C0603C103J5RACTU-Kemet-datasheet-11807495.pdf?src-supplier=Arrow+Electronics; ComponentLink45Description: https://datasheet.octopart.com:443/C0603C103J5RACTU-Kemet-datasheet-11807495.pdf?src-supplier=Arrow+Electronics; ComponentLink46URL: https://datasheet.octopart.com:443/C0603C103J5RAC-TU-Kemet-datasheet-7275486.pdf?src-supplier=Jameco; ComponentLink46Description: https://datasheet.octopart.com:443/C0603C103J5RAC-TU-Kemet-datasheet-7275486.pdf?src-supplier=Jameco
footprint CAP CER 0603
pins: 1, 2

## CAP CER 1UF 50V 0805
designator C?, comment value 1µF  (hidden comment: CL21B105KBFNNNE)
CAP CER 1UF 50V X7R 0805; Manufacturer: Samsung Electro-Mechanics; Dielectric Material: Ceramic; Tolerance: 10%; Supplier: Arrow Electronics; Supplier Part Number: CL21B105KBFNNNE; Manufacturer Part Number: CL21B105KBFNNNE; RoHS: Compliant; Category: Ceramic Capacitors; Stock: 4546000; Pricing: 10000=0,0106 (USD); Case/Package: 0805; Case Code (Imperial): 0805; Case Code (Metric): 2012; China RoHS: Compliant; Depth: 1.25mm; Dielectric: X7R; Height: 1.35mm; Length: 2mm; Lifecycle Status: Production; Material: Ceramic; Max Operating Temperature: 125°C; Min Operating Temperature: -55°C; Mounting Technology: Surface Mount; Number of Terminals: 2; Radiation Hardening: No; REACH SVHC: Yes; Schedule B: 8532240020, 8532240020|8532240020, 8532240020|8532240020|8532240020, 8532240020|8532240020|8532240020|8532240020; Thickness: 1.3462mm; Voltage: 50V; Voltage Rating: 50V; Voltage Rating (DC): 50V; Width: 1.25mm; ComponentLink1URL: https://datasheet.octopart.com:443/CL21B105KBFNNNE-Samsung-Electro-Mechanics-datasheet-136482495.pdf?src-supplier=IHS; ComponentLink1Description: https://datasheet.octopart.com:443/CL21B105KBFNNNE-Samsung-Electro-Mechanics-datasheet-136482495.pdf?src-supplier=IHS; ComponentLink2URL: https://datasheet.octopart.com:443/CL21B105KBFNNNE-Samsung-Electro-Mechanics-datasheet-11733377.pdf?src-supplier=Future+Electronics; ComponentLink2Description: https://datasheet.octopart.com:443/CL21B105KBFNNNE-Samsung-Electro-Mechanics-datasheet-11733377.pdf?src-supplier=Future+Electronics; ComponentLink3URL: https://datasheet.octopart.com:443/CL21B105KBFNNNE-Samsung-Electro-Mechanics-datasheet-116891038.pdf?src-supplier=Future+Electronics; ComponentLink3Description: https://datasheet.octopart.com:443/CL21B105KBFNNNE-Samsung-Electro-Mechanics-datasheet-116891038.pdf?src-supplier=Future+Electronics; ComponentLink4URL: https://datasheet.octopart.com:443/CL21B105KBFNNNE-Samsung-Electro-Mechanics-datasheet-81462183.pdf?src-supplier=Future+Electronics; ComponentLink4Description: https://datasheet.octopart.com:443/CL21B105KBFNNNE-Samsung-Electro-Mechanics-datasheet-81462183.pdf?src-supplier=Future+Electronics; ComponentLink5URL: https://datasheet.octopart.com:443/CL21B105KBFNNNE-Samsung-datasheet-48647582.pdf?src-supplier=Future+Electronics; ComponentLink5Description: https://datasheet.octopart.com:443/CL21B105KBFNNNE-Samsung-datasheet-48647582.pdf?src-supplier=Future+Electronics; ComponentLink6URL: https://datasheet.octopart.com:443/CL21B105KBFNNNE-Samsung-datasheet-8326294.pdf?src-supplier=Future+Electronics; ComponentLink6Description: https://datasheet.octopart.com:443/CL21B105KBFNNNE-Samsung-datasheet-8326294.pdf?src-supplier=Future+Electronics; ComponentLink7URL: https://datasheet.octopart.com:443/CL21B105KBFNNNE-Samsung-Electro-Mechanics-datasheet-149045959.pdf?src-supplier=Future+Electronics; ComponentLink7Description: https://datasheet.octopart.com:443/CL21B105KBFNNNE-Samsung-Electro-Mechanics-datasheet-149045959.pdf?src-supplier=Future+Electronics; ComponentLink8URL: https://datasheet.octopart.com/CL21B105KBFNNNE-Samsung-Electro-Mechanics-datasheet-97040617.pdf; ComponentLink8Description: https://datasheet.octopart.com/CL21B105KBFNNNE-Samsung-Electro-Mechanics-datasheet-97040617.pdf; ComponentLink9URL: https://datasheet.octopart.com/CL21B105KBFNNNE-Samsung-Electro-Mechanics-datasheet-8324245.pdf; ComponentLink9Description: https://datasheet.octopart.com/CL21B105KBFNNNE-Samsung-Electro-Mechanics-datasheet-8324245.pdf; ComponentLink10URL: https://datasheet.octopart.com/General-Multilayer-Ceramic-Capacitors-Samsung-datasheet-family-111.pdf; ComponentLink10Description: https://datasheet.octopart.com/General-Multilayer-Ceramic-Capacitors-Samsung-datasheet-family-111.pdf; ComponentLink11URL: https://datasheet.octopart.com:443/CL21B105KBFNNNE-Samsung-datasheet-59220082.pdf?src-supplier=TME; ComponentLink11Description: https://datasheet.octopart.com:443/CL21B105KBFNNNE-Samsung-datasheet-59220082.pdf?src-supplier=TME; ComponentLink12URL: http://sigma.octopart.com:80/rohs_certificate/General-Multilayer-Ceramic-Capacitors-Samsung-family-110.pdf?src-supplier=Compliance+Statements; ComponentLink12Description: http://sigma.octopart.com:80/rohs_certificate/General-Multilayer-Ceramic-Capacitors-Samsung-family-110.pdf?src-supplier=Compliance+Statements; ComponentLink13URL: http://sigma.octopart.com:80/rohs_statement/General-Multilayer-Ceramic-Capacitors-Samsung-family-132.pdf?src-supplier=Compliance+Statements; ComponentLink13Description: http://sigma.octopart.com:80/rohs_statement/General-Multilayer-Ceramic-Capacitors-Samsung-family-132.pdf?src-supplier=Compliance+Statements; ComponentLink14URL: http://sigma.octopart.com:80/reach_statement/General-Multilayer-Ceramic-Capacitors-Samsung-family-133.pdf?src-supplier=Compliance+Statements; ComponentLink14Description: http://sigma.octopart.com:80/reach_statement/General-Multilayer-Ceramic-Capacitors-Samsung-family-133.pdf?src-supplier=Compliance+Statements
footprint CAP CER 0805
pins: 1, 2

## CAP CER 10UF 6.3V 0805
designator C?, comment value 10µF  (hidden comment: CL21B106KQQNNNG)
10 µF ±10% 6.3V Ceramic Capacitor X7R 0805 (2012 Metric); Manufacturer: Samsung Electro-Mechanics; Supplier: Arrow Electronics; Supplier Part Number: CL21B106KQQNNNG; Manufacturer Part Number: CL21B106KQQNNNG; RoHS: Compliant; Category: Ceramic Capacitors; Stock: 330626; Pricing: 1=0,0256, 10=0,011, 25=0,011, 100=0,008, 250=0,008, 500=0,007, 1000=0,006, 3000=0,006, 6000=0,005, 15000=0,005, 30000=0,005, 75000=0,004, 150000=0,004 (USD); Case/Package: 0805; Case Code (Imperial): 0805; Case Code (Metric): 2012; China RoHS: Compliant; Depth: 1.25mm; Dielectric: X7R; Dielectric Material: Ceramic; Height: 1.4mm; Lead Free: Lead Free; Length: 2mm; Lifecycle Status: Production; Material: Ceramic; Max Operating Temperature: 125°C; Min Operating Temperature: -55°C; Mounting Technology: Surface Mount; Number of Terminals: 2; REACH SVHC: Yes; Schedule B: 8532240020, 8532240020|8532240020, 8532240020|8532240020|8532240020, 8532240020|8532240020|8532240020|8532240020; Thickness: 1.397mm; Tolerance: 10%; Voltage: 6.3V; Voltage Rating: 6.3V; Voltage Rating (DC): 6.3V; Width: 1.25mm; ComponentLink1URL: https://datasheet.octopart.com:443/CL21B106KQQNNNG-Samsung-Electro-Mechanics-datasheet-182023452.pdf?src-supplier=IHS; ComponentLink1Description: https://datasheet.octopart.com:443/CL21B106KQQNNNG-Samsung-Electro-Mechanics-datasheet-182023452.pdf?src-supplier=IHS; ComponentLink2URL: https://datasheet.octopart.com:443/CL21B106KQQNNNG-Samsung-Electro-Mechanics-datasheet-136482505.pdf?src-supplier=Samsung+SCT; ComponentLink2Description: https://datasheet.octopart.com:443/CL21B106KQQNNNG-Samsung-Electro-Mechanics-datasheet-136482505.pdf?src-supplier=Samsung+SCT; ComponentLink3URL: https://datasheet.octopart.com:443/CL21B106KQQNNNG-Samsung-Electro-Mechanics-datasheet-116891051.pdf?src-supplier=Future+Electronics; ComponentLink3Description: https://datasheet.octopart.com:443/CL21B106KQQNNNG-Samsung-Electro-Mechanics-datasheet-116891051.pdf?src-supplier=Future+Electronics; ComponentLink4URL: https://datasheet.octopart.com:443/CL21B106KQQNNNG-Samsung-Electro-Mechanics-datasheet-81462194.pdf?src-supplier=Future+Electronics; ComponentLink4Description: https://datasheet.octopart.com:443/CL21B106KQQNNNG-Samsung-Electro-Mechanics-datasheet-81462194.pdf?src-supplier=Future+Electronics; ComponentLink5URL: https://datasheet.octopart.com:443/CL21B106KQQNNNG-Samsung-datasheet-26669288.pdf?src-supplier=Future+Electronics; ComponentLink5Description: https://datasheet.octopart.com:443/CL21B106KQQNNNG-Samsung-datasheet-26669288.pdf?src-supplier=Future+Electronics; ComponentLink6URL: https://datasheet.octopart.com:443/CL21B106KQQNNNG-Samsung-datasheet-8324245.pdf?src-supplier=Future+Electronics; ComponentLink6Description: https://datasheet.octopart.com:443/CL21B106KQQNNNG-Samsung-datasheet-8324245.pdf?src-supplier=Future+Electronics; ComponentLink7URL: https://datasheet.octopart.com:443/CL21B106KQQNNNG-Samsung-Electro-Mechanics-datasheet-149045989.pdf?src-supplier=Future+Electronics; ComponentLink7Description: https://datasheet.octopart.com:443/CL21B106KQQNNNG-Samsung-Electro-Mechanics-datasheet-149045989.pdf?src-supplier=Future+Electronics; ComponentLink8URL: https://datasheet.octopart.com:443/CL21B106KQQNNNG-Samsung-datasheet-37081328.pdf?src-supplier=Future+Electronics; ComponentLink8Description: https://datasheet.octopart.com:443/CL21B106KQQNNNG-Samsung-datasheet-37081328.pdf?src-supplier=Future+Electronics; ComponentLink9URL: https://datasheet.octopart.com/CL21B106KQQNNNG-Samsung-Electro-Mechanics-datasheet-97040617.pdf; ComponentLink9Description: https://datasheet.octopart.com/CL21B106KQQNNNG-Samsung-Electro-Mechanics-datasheet-97040617.pdf; ComponentLink10URL: https://datasheet.octopart.com:443/CL21B106KQQNNNG-Samsung-datasheet-59220082.pdf?src-supplier=TME; ComponentLink10Description: https://datasheet.octopart.com:443/CL21B106KQQNNNG-Samsung-datasheet-59220082.pdf?src-supplier=TME
footprint CAP CER 0805
pins: 1, 2

## CAP CER 10UF 50V 0805
designator C?, comment Capacitance: 10 µF  (hidden comment: 0805W106K500CC)
10 µF ±10% 50V Ceramic Capacitor X5R 0805 (2012 Metric); Series: 0805; Voltage - Rated: 50V; Tolerance: ±10%; Temperature Coefficient: X5R; Operating Temperature: -55°C ~ 85°C; Mounting Type: Surface Mount, MLCC; Package / Case: 0805 (2012 Metric); Size / Dimension: 0.079" L x 0.049" W (2.00mm x 1.25mm); Thickness (Max): 0.057" (1.45mm); ComponentLink1Description: Datasheet; ComponentLink1URL: https://mm.digikey.com/Volume0/opasdata/d220001/medias/docus/5660/3372_0805W106K500CC.pdf; ComponentLink2Description: Supplier Link; ComponentLink2URL: https://www.digikey.com/en/products/detail/nextgen-components/0805W106K500CC/18677029
footprint CAP CER 0805
pins: 1, 2

## CAP CER 22UF 10V 1210
designator C?, comment value 22µF  (hidden comment: C1210C226J8RACTU)
CAP CER 22UF 10V X7R 1210; Manufacturer: KEMET; Dielectric Material: Ceramic; Tolerance: 5%; Supplier: Arrow Electronics; Supplier Part Number: C1210C226J8RACTU; Manufacturer Part Number: C1210C226J8RACTU; RoHS: Compliant; Category: Ceramic Capacitors; Pricing: 1000=2,466, 2000=2,456, 3000=2,445, 4000=2,434, 5000=2,422, 6000=2,411, 10000=2,4, 20000=2,388, 50000=2,376 (USD); Case/Package: 1210; China RoHS: Compliant; Dielectric: X7R; Height: 2.5mm; Length: 3.2mm; Lifecycle Status: Production; Max Operating Temperature: 125°C; Min Operating Temperature: -55°C; Mounting Technology: Surface Mount; Number of Terminals: 2; REACH SVHC: Yes; Voltage Rating (DC): 10V; Width: 2.5mm; ComponentLink1URL: https://datasheet.octopart.com:443/C1210C226J8RACTU-KEMET-datasheet-178445679.pdf?src-supplier=IHS; ComponentLink1Description: https://datasheet.octopart.com:443/C1210C226J8RACTU-KEMET-datasheet-178445679.pdf?src-supplier=IHS; ComponentLink2URL: https://datasheet.octopart.com/C1210C226J8RACTU-KEMET-datasheet-84169754.pdf; ComponentLink2Description: https://datasheet.octopart.com/C1210C226J8RACTU-KEMET-datasheet-84169754.pdf
footprint CAP CER 1210
pins: 1, 2

## CH340E
designator U?, comment Model: CH340E  (hidden comment: USB TO SERIAL IC - CH340E (10 PA)
USB Bridge, USB to UART USB 2.0 UART Interface 10-MSOP; Standards: USB 2.0; Voltage - Supply: 3V ~ 3.6V; Current - Supply: 20mA; Protocol: USB; Function: Bridge, USB to UART; Interface: UART; Operating Temperature: -20°C ~ 70°C (TA); Package / Case: 10-MSOP; ComponentLink1Description: Supplier Link; ComponentLink1URL: https://www.digikey.com/en/products/detail/sparkfun-electronics/16278/17829769; ComponentLink2Description: Datasheet; ComponentLink2URL: https://www.mpja.com/download/35227cpdata.pdf
footprint 10-MSOP
pins: 1 UD+, 2 UD-, 3 GND, 4 RTS#, 5 CTS#, 6 TNOW, 7 VCC, 8 TXD, 9 RXD, 10 V3

## DIODE SCHOTTKY 40V 5A
designator D?, comment Technology: Schottky  (hidden comment: SS54)
Diode Schottky 40 V 5A Surface Mount SMA; Voltage - DC Reverse (Vr) (Max): 40 V; Voltage - Forward (Vf) (Max) @ If: 550 mV @ 5 A; Speed: Fast Recovery =< 500ns, > 200mA (Io); Current - Reverse Leakage @ Vr: 1 mA @ 40 V; Capacitance @ Vr, F: 500pF @ 4V, 1MHz; Current - Average Rectified (Io): 5A; Mounting Type: Surface Mount; Package / Case: DO-214AC, SMA; Operating Temperature - Junction: -55°C ~ 125°C; ComponentLink1Description: DataSheet; ComponentLink1URL: https://www.digikey.com/en/products/detail/mdd/ss54/15911594#:~:text=Datasheets-,SS54_Datasheet,-Environmental%20%26%20Export%20Classifications; ComponentLink2Description: Supplier Link; ComponentLink2URL: https://www.digikey.com/en/products/detail/mdd/ss54/15911594
footprint DO-214AC (SMA)
pins: 1, 2

## DIODE TVS 14VC
designator D?, comment PESD5V0S2BT,215  (value not drawn)
12A 14V 5.5V Bidirectional 5V SOT-23 ESD and Surge Protection (TVS/ESD) ROHS; Manufacturer: Nexperia; Manufacturer Lifecycle Status: RELEASED FOR SUPPLY; Breakdown Voltage: 7.5V; Max Breakdown Voltage: 9.5V; Number of Elements: 2; Peak Pulse Power: 130W; Supplier: Arrow Electronics; Supplier Part Number: PESD5V0S2BT,215; Manufacturer Part Number: PESD5V0S2BT,215; RoHS: Compliant; Category: TVS Diodes; Stock: 375000; Pricing: 3000=0,1023, 6000=0,102, 9000=0,101, 15000=0,099 (USD); China RoHS: Compliant; Clamping Voltage: 14V; Contact Plating: Tin; Lifecycle Status: Production; Max Operating Temperature: 150°C; Min Breakdown Voltage: 5.5V; Pins: 3; Number of Terminals: 3; Operating Supply Voltage: 5V; Polarity: Bidirectional; REACH SVHC: Yes; Reverse Standoff Voltage: 5V; Schedule B: 8536300000, 8541100050, 8541100050|8541100050|8541100050|8541100050|8541100050; ComponentLink1URL: https://datasheet.octopart.com:443/PESD5V0S2BT%2C215-Nexperia-datasheet-8331350.pdf?src-supplier=IHS; ComponentLink1Description: https://datasheet.octopart.com:443/PESD5V0S2BT%2C215-Nexperia-datasheet-8331350.pdf?src-supplier=IHS; ComponentLink2URL: https://datasheet.octopart.com:443/PESD5V0S2BT%2C215-Nexperia-datasheet-87581778.pdf?src-supplier=Nexperia; ComponentLink2Description: https://datasheet.octopart.com:443/PESD5V0S2BT%2C215-Nexperia-datasheet-87581778.pdf?src-supplier=Nexperia; ComponentLink3URL: https://datasheet.octopart.com:443/PESD5V0S2BT%2C215-Nexperia-datasheet-180924588.pdf?src-supplier=Newark; ComponentLink3Description: https://datasheet.octopart.com:443/PESD5V0S2BT%2C215-Nexperia-datasheet-180924588.pdf?src-supplier=Newark; ComponentLink4URL: http://sigma.octopart.com:80/reach_statement/NXP-Semiconductors-company-13.pdf?src-supplier=Compliance+Statements; ComponentLink4Description: http://sigma.octopart.com:80/reach_statement/NXP-Semiconductors-company-13.pdf?src-supplier=Compliance+Statements; ComponentLink5URL: http://sigma.octopart.com:80/rohs_statement/NXP-Semiconductors-company-12.pdf?src-supplier=Compliance+Statements; ComponentLink5Description: http://sigma.octopart.com:80/rohs_statement/NXP-Semiconductors-company-12.pdf?src-supplier=Compliance+Statements
footprint SOT-23
pins: 1 K1, 2 K2, 3 K